# Altium schematic symbol library SCH - POWER - SWITCHMODE - TI LMZM33602RLR.SchLib: 1 symbol
Pins are listed as number, name and electrical type; pins without a type are passive.

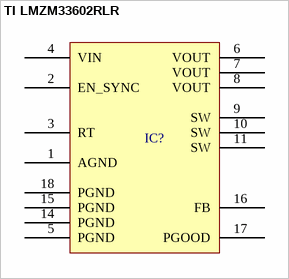
[diagram p0: symbol TI LMZM33602RLR]

## TI LMZM33602RLR
designator IC?  (value not drawn)
pins: 1 AGND, 2 EN_SYNC, 3 RT, 4 VIN, 5 PGND, 6 VOUT, 7 VOUT, 8 VOUT, 9 SW, 10 SW, 11 SW, 14 PGND, 15 PGND, 16 FB, 17 PGOOD, 18 PGND